# Altium schematic symbol library SUPPRESSION DIODE.SchLib: 1 symbol
Pins are listed as number, name and electrical type; pins without a type are passive.

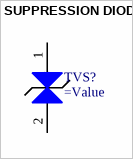
[diagram p0: symbol SUPPRESSION DIODE]

## SUPPRESSION DIODE
designator TVS?
=Description
pins: 1 K, 2 A